# EAGLE library part 74HC595D (library (common)-parts-that-we-use)
8-bit serial-in parallel-out shift register
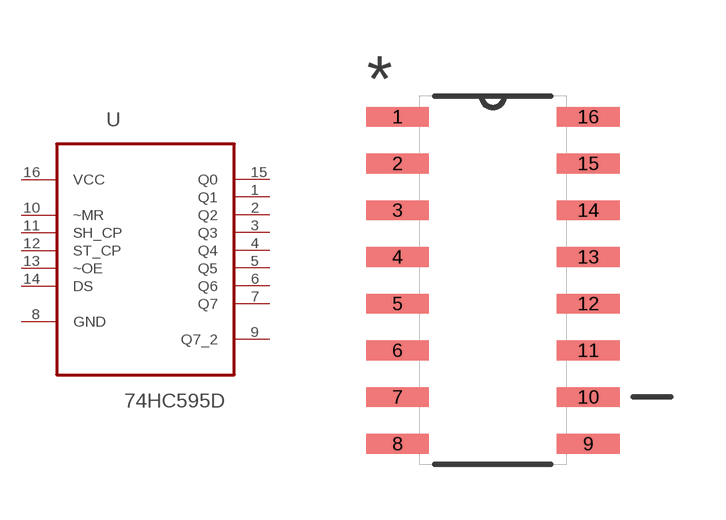
[diagram p9: symbol with the pads of SOIC127P600X175-16N; footprint SOIC127P600X175-16N]

Designator prefix U

## 74HC595D (MPN: 74HC595D; OC_FARNELL: 1201269; OC_NEWARK: 26M7771; PACKAGE: SOIC-16; SUPPLIER: NXP)  [SOIC127P600X175-16N]
1  Q1  out
2  Q2  out
3  Q3  out
4  Q4  out
5  Q5  out
6  Q6  out
7  Q7  out
8  GND  pas
9  Q7_2  out
10  ~MR  pas
11  SH_CP  pas
12  ST_CP  pas
13  ~OE  in
14  DS  in
15  Q0  out
16  VCC  pwr

## Footprint SOIC127P600X175-16N (pad centres in mm)
smd 1.702 x 0.533: 1 -2.591,4.445; 2 -2.591,3.175; 3 -2.591,1.905; 4 -2.591,0.635; 5 -2.591,-0.635; 6 -2.591,-1.905; 7 -2.591,-3.175; 8 -2.591,-4.445; 9 2.591,-4.445; 10 2.591,-3.175; 11 2.591,-1.905; 12 2.591,-0.635; 13 2.591,0.635; 14 2.591,1.905; 15 2.591,3.175; 16 2.591,4.445